# Altium footprint library SSOP-16(5.2X6.2).PcbLib: 1 footprints
Each footprint in its own frame and in the unit in brackets; x right, y up, seen from the top. Pads: shape width x height; smd on the part's side, far side on the other; paste and mask are expansions set on the pad; w line width, h text height; cw(c..) or ccw(c..) is an arc to the next point about the centre after c.
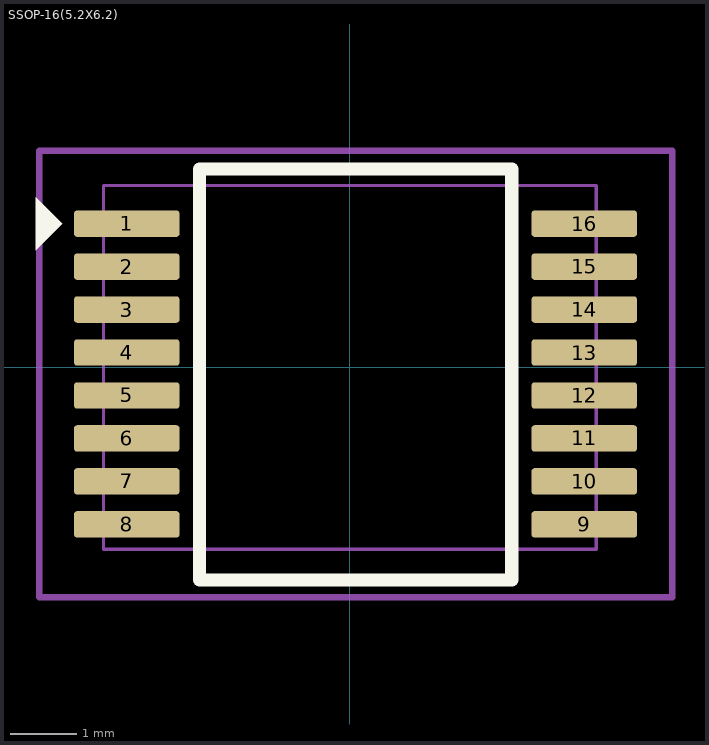
[diagram p0: the footprint, top view; thin cyan lines are the x and y axes]

## SSOP-16(5.2X6.2) [mm]
pads (16):
  rrect25% 1.6x0.4 smd: 1(-3.375,2.175) 2(-3.375,1.525) 3(-3.375,0.875) 4(-3.375,0.225) 5(-3.375,-0.425) 6(-3.375,-1.075) 7(-3.375,-1.725) 8(-3.375,-2.375) 9(3.545,-2.375) 10(3.545,-1.725) 11(3.545,-1.075) 12(3.545,-0.425) 13(3.545,0.225) 14(3.545,0.875) 15(3.545,1.525) 16(3.545,2.175)
Top Overlay:
  region: -4.75,1.775 -4.75,2.575 -4.35,2.175
  lines w0.2: -2.275,-3.215 2.45,-3.215 2.45,3 -2.275,3 -2.275,-3.215
Mechanical 15:
  lines w0.1: -4.7,-3.475 4.875,-3.475 4.875,3.275 -4.7,3.275 -4.7,-3.475
Mechanical 20:
  lines w0.05: -3.725,-2.75 -3.725,2.75 3.725,2.75 3.725,-2.75 -3.725,-2.75
3D body "step_temp.STEP": height 1.99, standoff 0, extent -3.802,-3.2 3.973,3